# EAGLE library part TRANS-BJT_PNP-DUAL (library LITTLEBITS140915)
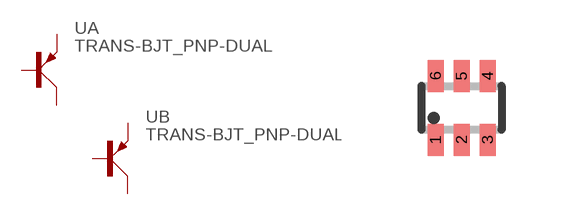
[diagram p37: symbol with the pads of SOT-363_PHILLIPS; footprint SOT-363_PHILLIPS]

Designator prefix -; gates A=BJT_PNP B=BJT_PNP

## TRANS-BJT_PNP-DUALBC857  [SOT-363_PHILLIPS]
1  A:E  pas
2  A:B  pas
3  B:C  pas
4  B:E  pas
5  B:B  pas
6  A:C  pas

## Footprint SOT-363_PHILLIPS (pad centres in mm)
smd 0.4 x 0.8: 1 -0.65,-0.8; 2 0,-0.8; 3 0.65,-0.8; 4 0.65,0.8; 5 0,0.8; 6 -0.65,0.8